# EAGLE library part LMH6574MA (library LMH6574)
High Speed Video Multiplexer
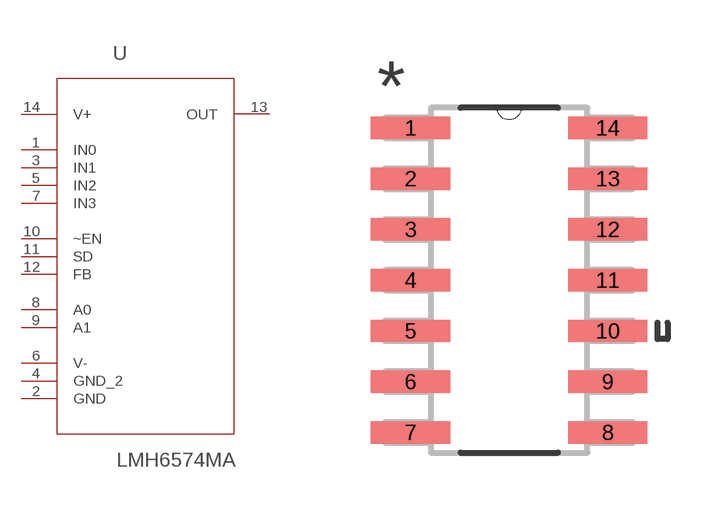
[diagram p0: symbol with the pads of SOIC127P620X175-14N; footprint SOIC127P620X175-14N]

Designator prefix U

## LMH6574MA (MPN: LMH6574MA; OC_FARNELL: 1008275; OC_NEWARK: 41K2784; PACKAGE: SOIC-14; SUPPLIER: National Semiconductors)  [SOIC127P620X175-14N]
1  IN0  in
2  GND  pas
3  IN1  in
4  GND_2  pas
5  IN2  in
6  V-  pwr
7  IN3  in
8  A0  in
9  A1  in
10  ~EN  in
11  SD  in
12  FB  in
13  OUT  out
14  V+  pwr

## Footprint SOIC127P620X175-14N (pad centres in mm)
smd 1.981 x 0.559: 1 -2.464,3.81; 2 -2.464,2.54; 3 -2.464,1.27; 4 -2.464,0; 5 -2.464,-1.27; 6 -2.464,-2.54; 7 -2.464,-3.81; 8 2.464,-3.81; 9 2.464,-2.54; 10 2.464,-1.27; 11 2.464,0; 12 2.464,1.27; 13 2.464,2.54; 14 2.464,3.81